# Altium footprint library 3U16AD_LIB_1124(1).PcbLib: 4 footprints
Each footprint in its own frame and in the unit in brackets; x right, y up, seen from the top. Pads: shape width x height; smd on the part's side, far side on the other; paste and mask are expansions set on the pad; w line width, h text height; cw(c..) or ccw(c..) is an arc to the next point about the centre after c.
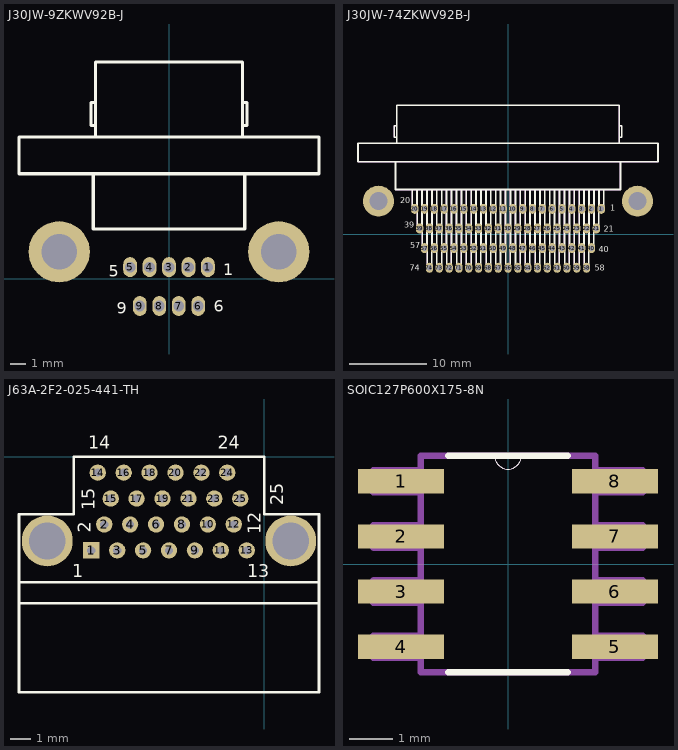
[diagram p0: the footprints below, top view; thin cyan lines are the x and y axes]

## J30JW-9ZKWV92B-J [mm]
pads (11):
  oval 0.9x1.3 hole 0.7: 1(2.54,0.77) 2(1.27,0.77) 3(0,0.77) 4(-1.27,0.77) 5(-2.54,0.77) 6(1.905,-1.77) 7(0.635,-1.77) 8(-0.635,-1.77) 9(-1.905,-1.77)
  round 4 hole 2.3 unplated: ""(-7.175,1.77) ""(7.175,1.77)
Top Overlay:
  lines w0.203: -4.95,6.87 -4.95,3.27 4.95,3.27 4.95,6.87 ; -4.8,9.27 -4.8,14.17 -4.465,14.17 -2.675,14.17 -0.51,14.17 ; -4.8,10.02 -5.1,10.02 -5.1,10.82 -5.1,11.52 -4.8,11.52 ; -0.635,14.17 2.675,14.17 4.465,14.17 4.8,14.17 4.8,9.27 ; 4.8,10.02 5.1,10.02 5.1,10.82 5.1,11.52 4.8,11.52 ; -9.8,6.87 -8.3,6.87 9.8,6.87 9.8,9.27 8.3,9.27 -9.8,9.27 -9.8,6.87
  text "1" at 3.556,0.254 h0.76
  text "6" at 2.921,-2.159 h0.76
  text "5" at -3.937,0.127 h0.76
  text "9" at -3.429,-2.286 h0.76
Mechanical 1:
  lines w0.013: -8.3,6.87 -9.8,6.87 -9.8,9.27 -8.3,9.27 ; -4.95,3.27 -4.95,6.87 ; -4.8,9.27 -4.8,14.17 -4.465,14.17 -2.675,14.17 -0.51,14.17 ; -4.8,10.02 -5.1,10.02 -5.1,10.82 -5.1,11.52 -4.8,11.52 ; 0.51,14.17 2.675,14.17 4.465,14.17 4.8,14.17 4.8,9.27 ; 4.8,10.02 5.1,10.02 5.1,10.82 5.1,11.52 4.8,11.52 ; 4.95,3.27 4.95,6.87 ; 8.3,6.87 9.8,6.87 9.8,9.27 8.3,9.27

## J30JW-74ZKWV92B-J [mm]
pads (76):
  oval 0.95x1.3 hole 0.7: 1(12.065,3.31) 2(10.795,3.31) 3(9.525,3.31) 4(8.255,3.31) 5(6.985,3.31) 6(5.715,3.31) 7(4.445,3.31) 8(3.175,3.31) 9(1.905,3.31) 10(0.635,3.31) 11(-0.635,3.31) 12(-1.905,3.31) 13(-3.175,3.31) 14(-4.445,3.31) 15(-5.715,3.31) 16(-6.985,3.31) 17(-8.255,3.31) 18(-9.525,3.31) 19(-10.795,3.31) 20(-12.065,3.31) 21(11.43,0.77) 22(10.16,0.77) 23(8.89,0.77) 24(7.62,0.77) 25(6.35,0.77) 26(5.08,0.77) 27(3.81,0.77) 28(2.54,0.77) 29(1.27,0.77) 30(0,0.77) 31(-1.27,0.77) 32(-2.54,0.77) 33(-3.81,0.77) 34(-5.08,0.77) 35(-6.35,0.77) 36(-7.62,0.77) 37(-8.89,0.77) 38(-10.16,0.77) 39(-11.43,0.77) 40(10.795,-1.77) 41(9.525,-1.77) 42(8.255,-1.77) 43(6.985,-1.77) 44(5.715,-1.77) 45(4.445,-1.77) 46(3.175,-1.77) 47(1.905,-1.77) 48(0.635,-1.77) 49(-0.635,-1.77) 50(-1.905,-1.77) 51(-3.175,-1.77) 52(-4.445,-1.77) 53(-5.715,-1.77) 54(-6.985,-1.77) 55(-8.255,-1.77) 56(-9.525,-1.77) 57(-10.795,-1.77) 58(10.16,-4.31) 59(8.89,-4.31) 60(7.62,-4.31) 61(6.35,-4.31) 62(5.08,-4.31) 63(3.81,-4.31) 64(2.54,-4.31) 65(1.27,-4.31) 66(0,-4.31) 67(-1.27,-4.31) 68(-2.54,-4.31) 69(-3.81,-4.31) 70(-5.08,-4.31) 71(-6.35,-4.31) 72(-7.62,-4.31) 73(-8.89,-4.31) 74(-10.16,-4.31)
  round 4 hole 2.3: ""(-16.75,4.31) ""(16.75,4.31)
Top Overlay:
  drawing of 232 lines, arcs and shapes, not listed
  text "1" at 13.208,3.048 h0.76
  text "21" at 12.363,0.358 h0.76
  text "40" at 11.728,-2.309 h0.76
  text "58" at 11.22,-4.722 h0.76
  text "74" at -12.7,-4.691 h0.76
  text "57" at -12.656,-1.801 h0.76
  text "39" at -13.418,0.866 h0.76
  text "20" at -13.926,4.041 h0.76
Mechanical 1:
  drawing of 232 lines, arcs and shapes, not listed

## J63A-2F2-025-441-TH [mm]
pads (27):
  rect 0.8x0.8 hole 0.4: 1(-8.475,-4.58)
  round 0.8 hole 0.4: 2(-7.84,-3.31) 3(-7.205,-4.58) 4(-6.57,-3.31) 5(-5.935,-4.58) 6(-5.3,-3.31) 7(-4.665,-4.58) 8(-4.03,-3.31) 9(-3.395,-4.58) 10(-2.76,-3.31) 11(-2.125,-4.58) 12(-1.49,-3.31) 13(-0.855,-4.58) 14(-8.157,-0.77) 15(-7.522,-2.04) 16(-6.887,-0.77) 17(-6.252,-2.04) 18(-5.617,-0.77) 19(-4.982,-2.04) 20(-4.347,-0.77) 21(-3.712,-2.04) 22(-3.077,-0.77) 23(-2.442,-2.04) 24(-1.807,-0.77) 25(-1.172,-2.04)
  round 2.5 hole 1.8 unplated: ""(-10.635,-4.12) ""(1.305,-4.12)
Top Overlay:
  lines w0.127: -12.02,-7.17 2.69,-7.17 ; -12.02,-6.142 2.69,-6.142 ; -12.02,-11.54 -12.02,-2.8 -9.33,-2.8 -9.33,0 0,0 0,-2.8 2.69,-2.8 2.69,-11.54 -12.02,-11.54
  text "1" at -9.398,-5.905 h0.64
  text "13" at -0.826,-5.905 h0.64
  text "2" at -8.509,-3.708 h0.64
  text "15" at -8.306,-2.616 h0.64
  text "14" at -8.636,0.406 h0.64
  text "24" at -2.286,0.406 h0.64
  text "25" at 0.94,-2.362 h0.64
  text "12" at -0.178,-3.785 h0.64

## SOIC127P600X175-8N [mil]
pads (8):
  rect 78x22 smd: 1(-97,75) 2(-97,25) 3(-97,-25) 4(-97,-75) 5(97,-75) 6(97,-25) 7(97,25) 8(97,75)
Top Overlay:
  lines w0: -12,98 ccw(c0,98) 12,98
  lines w6: -54,-98 54,-98 ; -54,98 -12,98 12,98 54,98
Mechanical 13:
  lines w0: -12,98 ccw(c0,98) 12,98
  lines w6: -122,-85 -122,-65 -79,-65 -79,-85 -122,-85 ; -122,-35 -122,-15 -79,-15 -79,-35 -122,-35 ; -122,15 -122,35 -79,35 -79,15 -122,15 ; -122,65 -122,85 -79,85 -79,65 -122,65 ; -79,-98 79,-98 79,98 12,98 -12,98 -79,98 -79,-98 ; 79,-85 79,-65 122,-65 122,-85 79,-85 ; 79,-35 79,-15 122,-15 122,-35 79,-35 ; 79,15 79,35 122,35 122,15 79,15 ; 79,65 79,85 122,85 122,65 79,65
3D body "step_temp.STEP": height 68.9, standoff 0, extent -118.11,-96.46 118.11,96.46